# Altium integrated library Motorola Microwave Amplifier.IntLib: 1 symbol
Pins are listed as number, name and electrical type; pins without a type are passive.

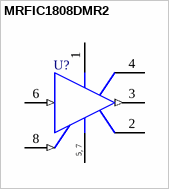
[diagram p0: symbol MRFIC1808DMR2]

## MRFIC1808DMR2
designator U?
1.9 GHz GaAs Low-Noise Amplifier; Published: 28-Feb-2003; LatestRevisionDate: 06-Jun-2005; LatestRevisionNote: Stylized 3D Model Added.; DatasheetVersion: 1999, Rev. 6; PackageVersion: 1997; PackageReference: 846A-02; Publisher: Altium Limited; PackageDescription: Shrink Small Outline; 8 Leads; Body Width 3 mm; Pitch 0.65 mm
footprint 846A-02 (Shrink Small Outline; 8 Leads; Body Width 3 mm; Pitch 0.65 mm)
3D model 846A-02 (Shrink Small Outline; 8 Leads; Body Width 3 mm; Pitch 0.65 mm)
pins: 1 VCC (power), 2 NC, 3 RF OUT (out), 4 LNA CAP, 5 GND (power), 6 RF IN (in), 7 GND (power), 8 RX EN (in)
text: 5, 7